# Altium integrated library 3588 (1).IntLib: 1 symbol
Pins are listed as number, name and electrical type; pins without a type are passive.

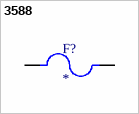
[diagram p0: symbol 3588]

## 3588
designator F?
SMT-Vertical Entry Mini Auto Fuse Holder; MF: Keystone Electronics; MP: 3588; SnapEDA_Link: https://www.snapeda.com/parts/3588/Keystone/view-part/?ref=snap; Package: None; Value: *; Check_prices: https://www.snapeda.com/parts/3588/Keystone/view-part/?ref=eda
footprint FUSE_3588
pins: 1_1 1, 1_2 1, 2_1 2, 2_2 2